# Altium footprint library E80-400&900M2212S-PcbLib.PcbLib: 1 footprints
Each footprint in its own frame and in the unit in brackets; x right, y up, seen from the top. Pads: shape width x height; smd on the part's side, far side on the other; paste and mask are expansions set on the pad; w line width, h text height; cw(c..) or ccw(c..) is an arc to the next point about the centre after c.
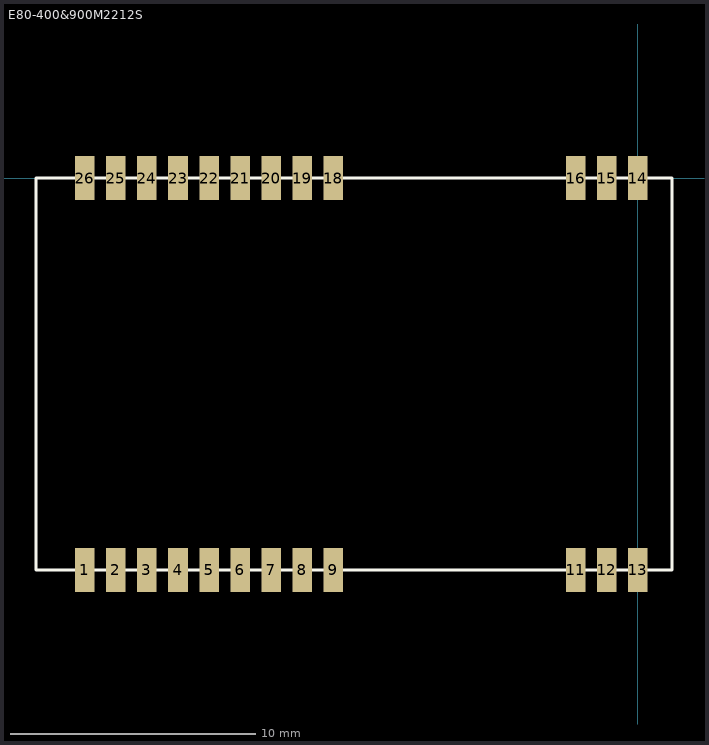
[diagram p0: the footprint, top view; thin cyan lines are the x and y axes]

## E80-400&900M2212S [mm] "26mm**16mm*3.23mm-S"
pads (24):
  rect 0.8x1.8 smd: 1(-22.6,-16) 2(-21.33,-16) 3(-20.06,-16) 4(-18.79,-16) 5(-17.52,-16) 6(-16.25,-16) 7(-14.98,-16) 8(-13.71,-16) 9(-12.44,-16) 11(-2.54,-16) 12(-1.27,-16) 13(0,-16) 14(0,0) 15(-1.27,0) 16(-2.54,0) 18(-12.44,0) 19(-13.71,0) 20(-14.98,0) 21(-16.25,0) 22(-17.52,0) 23(-18.79,0) 24(-20.06,0) 25(-21.33,0) 26(-22.6,0)
Top Overlay:
  lines w0.127: -24.6,-16 1.4,-16 1.4,0 -24.6,0 -24.6,-16